# EAGLE library part TMP75_D_8 (library library)
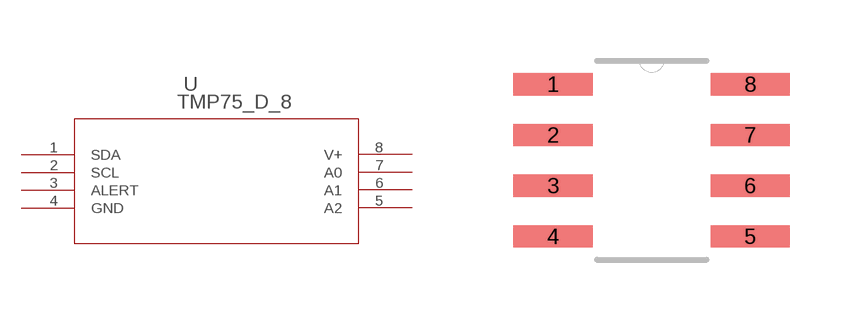
[diagram p1: symbol with the pads of D8; footprint D8]

Designator prefix U

## TMP75_D_8 (DATASHEETURL: http://www.ti.com/lit/gpn/TMP75; DESCRIPTION: Digital Temperature Sensor with 2-Wire Interface; FAMILY_NAME: TEMPERATURE SENSOR; GENERIC_PART_NUMBER: TMP75; INDUSTRY_STD_PKG_TYPE: SOIC; MANUFACTURER: Texas Instruments; MANUFACTURER_PART_NUMBER: tmp75_d_8; PACKAGE_DESIGNATOR: D; PIN_COUNT: 8; VENDOR: Texas Instruments)  [D8]
1  SDA  pas
2  SCL  pas
3  ALERT  pas
4  GND  pwr
5  A2  pas
6  A1  pas
7  A0  pas
8  V+  pwr

## Footprint D8 (pad centres in mm)
smd 1.981 x 0.559: 1 -2.464,1.905; 2 -2.464,0.635; 3 -2.464,-0.635; 4 -2.464,-1.905; 5 2.464,-1.905; 6 2.464,-0.635; 7 2.464,0.635; 8 2.464,1.905